# Altium schematic symbol library kmilo17pet-Maxim_Sensors.SchLib: 1172 symbols (part 9 of 61)
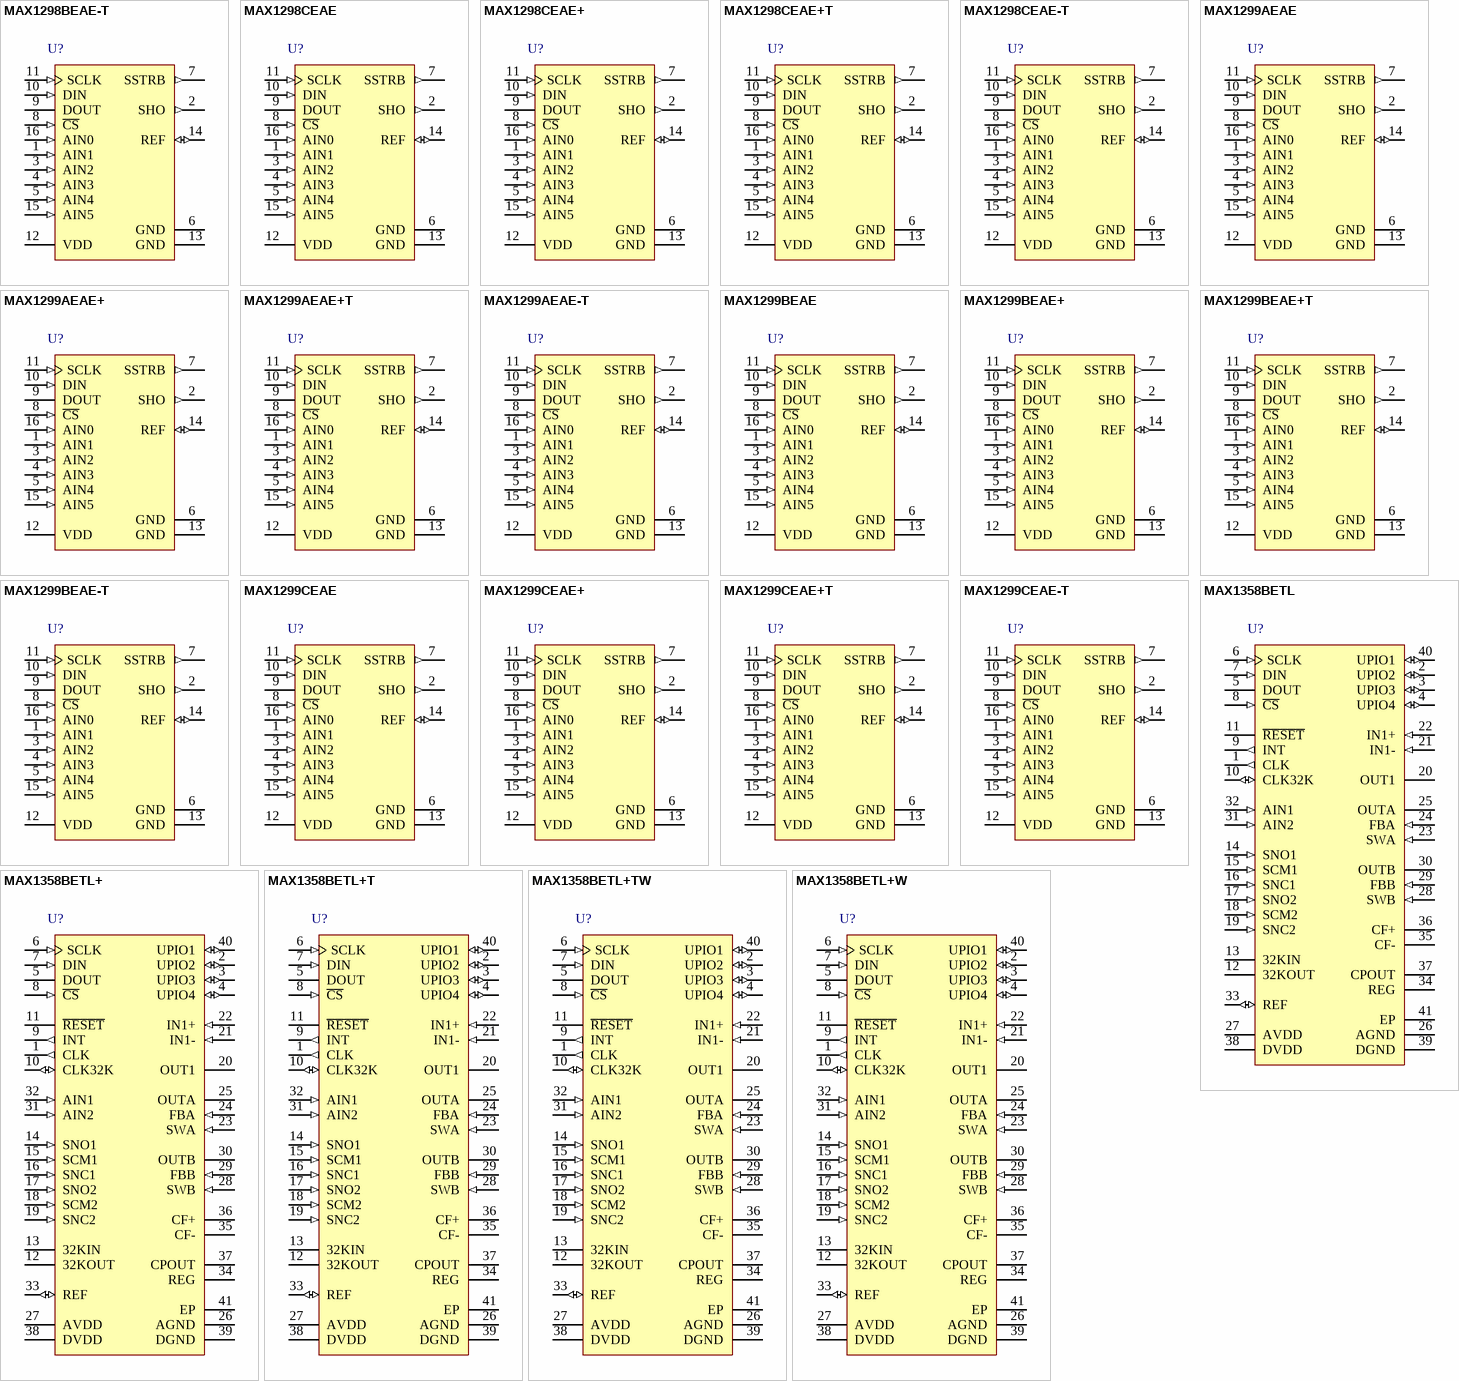
[diagram p41: symbols MAX1298BEAE-T to MAX1358BETL+W]

## MAX1298BEAE-T
designator U?
Serial-Output Temperature Sensor with Five-Channel ADC, 12 Bits Temperature Resolution, -40 to 85 degC, 16-Pin SOP (A16-3), Tape and Reel; Generic Part Number: MAX1298B; PartNumber: MAX1298BEAE-T; Interface: 3-Wire/SPI; Parasite Pwr.: No; DatasheetVersion: Rev. 1; PackageVersion: Rev. C, 02/2010; PackageReference: A16-3; PackageDescription: 16-Pin Shrink Small-Outline Package, Body 5.29 x 6.2 mm, Pitch 0.65 mm; Supplier 1: Mouser; Supplier Part Number 1: N/A; Packing: Tape and Reel; Mounting Technology: Surface Mount; Code_JEDEC: MO-150; ComponentLink1Description: Manufacturer URL; ComponentLink1URL: http://www.maximintegrated.com/; ComponentLink2Description: Datasheet; ComponentLink2URL: http://datasheets.maximintegrated.com/en/ds/MAX1298-MAX1299C.pdf; ComponentLink3Description: Package Specification; ComponentLink3URL: http://pdfserv.maximintegrated.com/package_dwgs/21-0056.PDF
footprint MAXM-A16-3_N (SOP, 16-Leads, Body 6.2x5.29mm, Pitch 0.65mm, IPC Medium Density)
footprint MAXM-A16-3_L (SOP, 16-Leads, Body 6.2x5.29mm, Pitch 0.65mm, IPC High Density)
footprint MAXM-A16-3_M (SOP, 16-Leads, Body 6.2x5.29mm, Pitch 0.65mm, IPC Low Density)
pins: 1 AIN1 (in) "Analog Input 1. Negative differential input relative to AIN0 or positive differential input relative to AIN5 (Table 5). Connect to the cathode of external diode 1 for remote temperature sensing", 2 SHO (out) "Shield Output. Used to suppress leakage currents at the anodes of remote temperature sensors (see Remote Diode Shielding). May also be connected to the shield of twisted-pair input cables used for remote temperature (See Datasheet)", 3 AIN2 (in) "Analog Input 2. Positive differential input relative to AIN3 or positive differential input relative to AIN5 (Table 5). Connect to the anode of external diode 2 for remote temperature sensing.", 4 AIN3 (in) "Analog Input 3. Negative differential input relative to AIN2 or positive differential input relative to AIN5 (Table 5). Connect to the cathode of external diode 2 for remote temperature sensing.", 5 AIN4 (in) "Analog input 4. Positive differential input relative to AIN5 (Table 5).", 6 GND (power) "Ground. Connect to pin 13.", 7 SSTRB (out) "Serial Strobe Output. SSTRB goes low at the beginning of an A/D conversion, and it goes high when the conversion is finished.", 8 ~{CS} (in) "Active-Low Chip Select. Data will not be clocked into DIN unless C\S\ is low. When C\S\ is high, DOUT is at high impedance.", 9 DOUT (hiz) "Serial Data Output. DOUT transitions on the falling edge of SCLK.", 10 DIN (in) "Serial Data Input. DIN latches data on the rising edge of SCLK. 11 SCLK Serial Clock Input. Clocks data in and out of the serial interface.", 11 SCLK (in) "Serial Clock Input. Clocks data in and out of the serial interface.", 12 VDD (power) "Positive Supply Voltage. Bypass with a 0.1uF capacitor to GND (pin 13).", 13 GND (power) "Ground (star ground)", 14 REF (io) "Reference-Buffer Output/ADC Reference Input. Reference voltage for A/D conversion. Bypass to GND (pin 13) with a 0.1uF capacitor. Select reference mode by writing to configuration byte (Table 2).", 15 AIN5 (in) "Analog Input 5. Negative differential input relative to AIN0-AIN4 (Table 5).", 16 AIN0 (in) "Analog Input 0. Positive differential input relative to AIN1 or positive differential input relative to AIN5 (Table 5). Connect to the anode of external diode 1 for remote temperature sensing."

## MAX1298CEAE
designator U?
Serial-Output Temperature Sensor with Five-Channel ADC, 12 Bits Temperature Resolution, -40 to 85 degC, 16-Pin SOP (A16-3); Generic Part Number: MAX1298C; PartNumber: MAX1298CEAE; Interface: 3-Wire/SPI; Parasite Pwr.: No; DatasheetVersion: Rev. 1; PackageVersion: Rev. C, 02/2010; PackageReference: A16-3; PackageDescription: 16-Pin Shrink Small-Outline Package, Body 5.29 x 6.2 mm, Pitch 0.65 mm; Supplier 1: Mouser; Supplier Part Number 1: N/A; Mounting Technology: Surface Mount; Code_JEDEC: MO-150; ComponentLink1Description: Manufacturer URL; ComponentLink1URL: http://www.maximintegrated.com/; ComponentLink2Description: Datasheet; ComponentLink2URL: http://datasheets.maximintegrated.com/en/ds/MAX1298-MAX1299C.pdf; ComponentLink3Description: Package Specification; ComponentLink3URL: http://pdfserv.maximintegrated.com/package_dwgs/21-0056.PDF
footprint MAXM-A16-3_N (SOP, 16-Leads, Body 6.2x5.29mm, Pitch 0.65mm, IPC Medium Density)
footprint MAXM-A16-3_L (SOP, 16-Leads, Body 6.2x5.29mm, Pitch 0.65mm, IPC High Density)
footprint MAXM-A16-3_M (SOP, 16-Leads, Body 6.2x5.29mm, Pitch 0.65mm, IPC Low Density)
pins: 1 AIN1 (in) "Analog Input 1. Negative differential input relative to AIN0 or positive differential input relative to AIN5 (Table 5). Connect to the cathode of external diode 1 for remote temperature sensing", 2 SHO (out) "Shield Output. Used to suppress leakage currents at the anodes of remote temperature sensors (see Remote Diode Shielding). May also be connected to the shield of twisted-pair input cables used for remote temperature (See Datasheet)", 3 AIN2 (in) "Analog Input 2. Positive differential input relative to AIN3 or positive differential input relative to AIN5 (Table 5). Connect to the anode of external diode 2 for remote temperature sensing.", 4 AIN3 (in) "Analog Input 3. Negative differential input relative to AIN2 or positive differential input relative to AIN5 (Table 5). Connect to the cathode of external diode 2 for remote temperature sensing.", 5 AIN4 (in) "Analog input 4. Positive differential input relative to AIN5 (Table 5).", 6 GND (power) "Ground. Connect to pin 13.", 7 SSTRB (out) "Serial Strobe Output. SSTRB goes low at the beginning of an A/D conversion, and it goes high when the conversion is finished.", 8 ~{CS} (in) "Active-Low Chip Select. Data will not be clocked into DIN unless C\S\ is low. When C\S\ is high, DOUT is at high impedance.", 9 DOUT (hiz) "Serial Data Output. DOUT transitions on the falling edge of SCLK.", 10 DIN (in) "Serial Data Input. DIN latches data on the rising edge of SCLK. 11 SCLK Serial Clock Input. Clocks data in and out of the serial interface.", 11 SCLK (in) "Serial Clock Input. Clocks data in and out of the serial interface.", 12 VDD (power) "Positive Supply Voltage. Bypass with a 0.1uF capacitor to GND (pin 13).", 13 GND (power) "Ground (star ground)", 14 REF (io) "Reference-Buffer Output/ADC Reference Input. Reference voltage for A/D conversion. Bypass to GND (pin 13) with a 0.1uF capacitor. Select reference mode by writing to configuration byte (Table 2).", 15 AIN5 (in) "Analog Input 5. Negative differential input relative to AIN0-AIN4 (Table 5).", 16 AIN0 (in) "Analog Input 0. Positive differential input relative to AIN1 or positive differential input relative to AIN5 (Table 5). Connect to the anode of external diode 1 for remote temperature sensing."

## MAX1298CEAE+
designator U?
Serial-Output Temperature Sensor with Five-Channel ADC, 12 Bits Temperature Resolution, -40 to 85 degC, 16-Pin SOP (A16+3), Pb-Free; Generic Part Number: MAX1298C; PartNumber: MAX1298CEAE+; Interface: 3-Wire/SPI; Parasite Pwr.: No; DatasheetVersion: Rev. 1; PackageVersion: Rev. C, 02/2010; PackageReference: A16+3; PackageDescription: 16-Pin Shrink Small-Outline Package, Body 5.29 x 6.2 mm, Pitch 0.65 mm; Supplier 1: Digi-Key; Supplier Part Number 1: MAX1298CEAE+-ND; Supplier 2: Mouser; Supplier Part Number 2: 700-MAX1298CEAE; Mounting Technology: Surface Mount; Code_JEDEC: MO-150; ComponentLink1Description: Manufacturer URL; ComponentLink1URL: http://www.maximintegrated.com/; ComponentLink2Description: Datasheet; ComponentLink2URL: http://datasheets.maximintegrated.com/en/ds/MAX1298-MAX1299C.pdf; ComponentLink3Description: Package Specification; ComponentLink3URL: http://pdfserv.maximintegrated.com/package_dwgs/21-0056.PDF
footprint MAXM-A16+3_N (SOP, 16-Leads, Body 6.2x5.29mm, Pitch 0.65mm, IPC Medium Density)
footprint MAXM-A16+3_L (SOP, 16-Leads, Body 6.2x5.29mm, Pitch 0.65mm, IPC High Density)
footprint MAXM-A16+3_M (SOP, 16-Leads, Body 6.2x5.29mm, Pitch 0.65mm, IPC Low Density)
pins: 1 AIN1 (in) "Analog Input 1. Negative differential input relative to AIN0 or positive differential input relative to AIN5 (Table 5). Connect to the cathode of external diode 1 for remote temperature sensing", 2 SHO (out) "Shield Output. Used to suppress leakage currents at the anodes of remote temperature sensors (see Remote Diode Shielding). May also be connected to the shield of twisted-pair input cables used for remote temperature (See Datasheet)", 3 AIN2 (in) "Analog Input 2. Positive differential input relative to AIN3 or positive differential input relative to AIN5 (Table 5). Connect to the anode of external diode 2 for remote temperature sensing.", 4 AIN3 (in) "Analog Input 3. Negative differential input relative to AIN2 or positive differential input relative to AIN5 (Table 5). Connect to the cathode of external diode 2 for remote temperature sensing.", 5 AIN4 (in) "Analog input 4. Positive differential input relative to AIN5 (Table 5).", 6 GND (power) "Ground. Connect to pin 13.", 7 SSTRB (out) "Serial Strobe Output. SSTRB goes low at the beginning of an A/D conversion, and it goes high when the conversion is finished.", 8 ~{CS} (in) "Active-Low Chip Select. Data will not be clocked into DIN unless C\S\ is low. When C\S\ is high, DOUT is at high impedance.", 9 DOUT (hiz) "Serial Data Output. DOUT transitions on the falling edge of SCLK.", 10 DIN (in) "Serial Data Input. DIN latches data on the rising edge of SCLK. 11 SCLK Serial Clock Input. Clocks data in and out of the serial interface.", 11 SCLK (in) "Serial Clock Input. Clocks data in and out of the serial interface.", 12 VDD (power) "Positive Supply Voltage. Bypass with a 0.1uF capacitor to GND (pin 13).", 13 GND (power) "Ground (star ground)", 14 REF (io) "Reference-Buffer Output/ADC Reference Input. Reference voltage for A/D conversion. Bypass to GND (pin 13) with a 0.1uF capacitor. Select reference mode by writing to configuration byte (Table 2).", 15 AIN5 (in) "Analog Input 5. Negative differential input relative to AIN0-AIN4 (Table 5).", 16 AIN0 (in) "Analog Input 0. Positive differential input relative to AIN1 or positive differential input relative to AIN5 (Table 5). Connect to the anode of external diode 1 for remote temperature sensing."

## MAX1298CEAE+T
designator U?
Serial-Output Temperature Sensor with Five-Channel ADC, 12 Bits Temperature Resolution, -40 to 85 degC, 16-Pin SOP (A16+3), Pb-Free, Tape and Reel; Generic Part Number: MAX1298C; PartNumber: MAX1298CEAE+T; Interface: 3-Wire/SPI; Parasite Pwr.: No; DatasheetVersion: Rev. 1; PackageVersion: Rev. C, 02/2010; PackageReference: A16+3; PackageDescription: 16-Pin Shrink Small-Outline Package, Body 5.29 x 6.2 mm, Pitch 0.65 mm; Supplier 1: Digi-Key; Supplier Part Number 1: MAX1298CEAE+T-ND; Supplier 2: Mouser; Supplier Part Number 2: 700-MAX1298CEAET; Packing: Tape and Reel; Mounting Technology: Surface Mount; Code_JEDEC: MO-150; ComponentLink1Description: Manufacturer URL; ComponentLink1URL: http://www.maximintegrated.com/; ComponentLink2Description: Datasheet; ComponentLink2URL: http://datasheets.maximintegrated.com/en/ds/MAX1298-MAX1299C.pdf; ComponentLink3Description: Package Specification; ComponentLink3URL: http://pdfserv.maximintegrated.com/package_dwgs/21-0056.PDF
footprint MAXM-A16+3_N (SOP, 16-Leads, Body 6.2x5.29mm, Pitch 0.65mm, IPC Medium Density)
footprint MAXM-A16+3_L (SOP, 16-Leads, Body 6.2x5.29mm, Pitch 0.65mm, IPC High Density)
footprint MAXM-A16+3_M (SOP, 16-Leads, Body 6.2x5.29mm, Pitch 0.65mm, IPC Low Density)
pins: 1 AIN1 (in) "Analog Input 1. Negative differential input relative to AIN0 or positive differential input relative to AIN5 (Table 5). Connect to the cathode of external diode 1 for remote temperature sensing", 2 SHO (out) "Shield Output. Used to suppress leakage currents at the anodes of remote temperature sensors (see Remote Diode Shielding). May also be connected to the shield of twisted-pair input cables used for remote temperature (See Datasheet)", 3 AIN2 (in) "Analog Input 2. Positive differential input relative to AIN3 or positive differential input relative to AIN5 (Table 5). Connect to the anode of external diode 2 for remote temperature sensing.", 4 AIN3 (in) "Analog Input 3. Negative differential input relative to AIN2 or positive differential input relative to AIN5 (Table 5). Connect to the cathode of external diode 2 for remote temperature sensing.", 5 AIN4 (in) "Analog input 4. Positive differential input relative to AIN5 (Table 5).", 6 GND (power) "Ground. Connect to pin 13.", 7 SSTRB (out) "Serial Strobe Output. SSTRB goes low at the beginning of an A/D conversion, and it goes high when the conversion is finished.", 8 ~{CS} (in) "Active-Low Chip Select. Data will not be clocked into DIN unless C\S\ is low. When C\S\ is high, DOUT is at high impedance.", 9 DOUT (hiz) "Serial Data Output. DOUT transitions on the falling edge of SCLK.", 10 DIN (in) "Serial Data Input. DIN latches data on the rising edge of SCLK. 11 SCLK Serial Clock Input. Clocks data in and out of the serial interface.", 11 SCLK (in) "Serial Clock Input. Clocks data in and out of the serial interface.", 12 VDD (power) "Positive Supply Voltage. Bypass with a 0.1uF capacitor to GND (pin 13).", 13 GND (power) "Ground (star ground)", 14 REF (io) "Reference-Buffer Output/ADC Reference Input. Reference voltage for A/D conversion. Bypass to GND (pin 13) with a 0.1uF capacitor. Select reference mode by writing to configuration byte (Table 2).", 15 AIN5 (in) "Analog Input 5. Negative differential input relative to AIN0-AIN4 (Table 5).", 16 AIN0 (in) "Analog Input 0. Positive differential input relative to AIN1 or positive differential input relative to AIN5 (Table 5). Connect to the anode of external diode 1 for remote temperature sensing."

## MAX1298CEAE-T
designator U?
Serial-Output Temperature Sensor with Five-Channel ADC, 12 Bits Temperature Resolution, -40 to 85 degC, 16-Pin SOP (A16-3), Tape and Reel; Generic Part Number: MAX1298C; PartNumber: MAX1298CEAE-T; Interface: 3-Wire/SPI; Parasite Pwr.: No; DatasheetVersion: Rev. 1; PackageVersion: Rev. C, 02/2010; PackageReference: A16-3; PackageDescription: 16-Pin Shrink Small-Outline Package, Body 5.29 x 6.2 mm, Pitch 0.65 mm; Supplier 1: Mouser; Supplier Part Number 1: N/A; Packing: Tape and Reel; Mounting Technology: Surface Mount; Code_JEDEC: MO-150; ComponentLink1Description: Manufacturer URL; ComponentLink1URL: http://www.maximintegrated.com/; ComponentLink2Description: Datasheet; ComponentLink2URL: http://datasheets.maximintegrated.com/en/ds/MAX1298-MAX1299C.pdf; ComponentLink3Description: Package Specification; ComponentLink3URL: http://pdfserv.maximintegrated.com/package_dwgs/21-0056.PDF
footprint MAXM-A16-3_N (SOP, 16-Leads, Body 6.2x5.29mm, Pitch 0.65mm, IPC Medium Density)
footprint MAXM-A16-3_L (SOP, 16-Leads, Body 6.2x5.29mm, Pitch 0.65mm, IPC High Density)
footprint MAXM-A16-3_M (SOP, 16-Leads, Body 6.2x5.29mm, Pitch 0.65mm, IPC Low Density)
pins: 1 AIN1 (in) "Analog Input 1. Negative differential input relative to AIN0 or positive differential input relative to AIN5 (Table 5). Connect to the cathode of external diode 1 for remote temperature sensing", 2 SHO (out) "Shield Output. Used to suppress leakage currents at the anodes of remote temperature sensors (see Remote Diode Shielding). May also be connected to the shield of twisted-pair input cables used for remote temperature (See Datasheet)", 3 AIN2 (in) "Analog Input 2. Positive differential input relative to AIN3 or positive differential input relative to AIN5 (Table 5). Connect to the anode of external diode 2 for remote temperature sensing.", 4 AIN3 (in) "Analog Input 3. Negative differential input relative to AIN2 or positive differential input relative to AIN5 (Table 5). Connect to the cathode of external diode 2 for remote temperature sensing.", 5 AIN4 (in) "Analog input 4. Positive differential input relative to AIN5 (Table 5).", 6 GND (power) "Ground. Connect to pin 13.", 7 SSTRB (out) "Serial Strobe Output. SSTRB goes low at the beginning of an A/D conversion, and it goes high when the conversion is finished.", 8 ~{CS} (in) "Active-Low Chip Select. Data will not be clocked into DIN unless C\S\ is low. When C\S\ is high, DOUT is at high impedance.", 9 DOUT (hiz) "Serial Data Output. DOUT transitions on the falling edge of SCLK.", 10 DIN (in) "Serial Data Input. DIN latches data on the rising edge of SCLK. 11 SCLK Serial Clock Input. Clocks data in and out of the serial interface.", 11 SCLK (in) "Serial Clock Input. Clocks data in and out of the serial interface.", 12 VDD (power) "Positive Supply Voltage. Bypass with a 0.1uF capacitor to GND (pin 13).", 13 GND (power) "Ground (star ground)", 14 REF (io) "Reference-Buffer Output/ADC Reference Input. Reference voltage for A/D conversion. Bypass to GND (pin 13) with a 0.1uF capacitor. Select reference mode by writing to configuration byte (Table 2).", 15 AIN5 (in) "Analog Input 5. Negative differential input relative to AIN0-AIN4 (Table 5).", 16 AIN0 (in) "Analog Input 0. Positive differential input relative to AIN1 or positive differential input relative to AIN5 (Table 5). Connect to the anode of external diode 1 for remote temperature sensing."

## MAX1299AEAE
designator U?
Serial-Output Temperature Sensor with Five-Channel ADC, 12 Bits Temperature Resolution, -40 to 85 degC, 16-Pin SOP (A16-3); Generic Part Number: MAX1299A; PartNumber: MAX1299AEAE; Interface: 3-Wire/SPI; Parasite Pwr.: No; DatasheetVersion: Rev. 1; PackageVersion: Rev. C, 02/2010; PackageReference: A16-3; PackageDescription: 16-Pin Shrink Small-Outline Package, Body 5.29 x 6.2 mm, Pitch 0.65 mm; Supplier 1: Mouser; Supplier Part Number 1: N/A; Mounting Technology: Surface Mount; Code_JEDEC: MO-150; ComponentLink1Description: Manufacturer URL; ComponentLink1URL: http://www.maximintegrated.com/; ComponentLink2Description: Datasheet; ComponentLink2URL: http://datasheets.maximintegrated.com/en/ds/MAX1298-MAX1299C.pdf; ComponentLink3Description: Package Specification; ComponentLink3URL: http://pdfserv.maximintegrated.com/package_dwgs/21-0056.PDF
footprint MAXM-A16-3_N (SOP, 16-Leads, Body 6.2x5.29mm, Pitch 0.65mm, IPC Medium Density)
footprint MAXM-A16-3_L (SOP, 16-Leads, Body 6.2x5.29mm, Pitch 0.65mm, IPC High Density)
footprint MAXM-A16-3_M (SOP, 16-Leads, Body 6.2x5.29mm, Pitch 0.65mm, IPC Low Density)
pins: 1 AIN1 (in) "Analog Input 1. Negative differential input relative to AIN0 or positive differential input relative to AIN5 (Table 5). Connect to the cathode of external diode 1 for remote temperature sensing", 2 SHO (out) "Shield Output. Used to suppress leakage currents at the anodes of remote temperature sensors (see Remote Diode Shielding). May also be connected to the shield of twisted-pair input cables used for remote temperature (See Datasheet)", 3 AIN2 (in) "Analog Input 2. Positive differential input relative to AIN3 or positive differential input relative to AIN5 (Table 5). Connect to the anode of external diode 2 for remote temperature sensing.", 4 AIN3 (in) "Analog Input 3. Negative differential input relative to AIN2 or positive differential input relative to AIN5 (Table 5). Connect to the cathode of external diode 2 for remote temperature sensing.", 5 AIN4 (in) "Analog input 4. Positive differential input relative to AIN5 (Table 5).", 6 GND (power) "Ground. Connect to pin 13.", 7 SSTRB (out) "Serial Strobe Output. SSTRB goes low at the beginning of an A/D conversion, and it goes high when the conversion is finished.", 8 ~{CS} (in) "Active-Low Chip Select. Data will not be clocked into DIN unless C\S\ is low. When C\S\ is high, DOUT is at high impedance.", 9 DOUT (hiz) "Serial Data Output. DOUT transitions on the falling edge of SCLK.", 10 DIN (in) "Serial Data Input. DIN latches data on the rising edge of SCLK. 11 SCLK Serial Clock Input. Clocks data in and out of the serial interface.", 11 SCLK (in) "Serial Clock Input. Clocks data in and out of the serial interface.", 12 VDD (power) "Positive Supply Voltage. Bypass with a 0.1uF capacitor to GND (pin 13).", 13 GND (power) "Ground (star ground)", 14 REF (io) "Reference-Buffer Output/ADC Reference Input. Reference voltage for A/D conversion. Bypass to GND (pin 13) with a 0.1uF capacitor. Select reference mode by writing to configuration byte (Table 2).", 15 AIN5 (in) "Analog Input 5. Negative differential input relative to AIN0-AIN4 (Table 5).", 16 AIN0 (in) "Analog Input 0. Positive differential input relative to AIN1 or positive differential input relative to AIN5 (Table 5). Connect to the anode of external diode 1 for remote temperature sensing."

## MAX1299AEAE+
designator U?
Serial-Output Temperature Sensor with Five-Channel ADC, 12 Bits Temperature Resolution, -40 to 85 degC, 16-Pin SOP (A16+3), Pb-Free; Generic Part Number: MAX1299A; PartNumber: MAX1299AEAE+; Interface: 3-Wire/SPI; Parasite Pwr.: No; DatasheetVersion: Rev. 1; PackageVersion: Rev. C, 02/2010; PackageReference: A16+3; PackageDescription: 16-Pin Shrink Small-Outline Package, Body 5.29 x 6.2 mm, Pitch 0.65 mm; Supplier 1: Mouser; Supplier Part Number 1: N/A; Mounting Technology: Surface Mount; Code_JEDEC: MO-150; ComponentLink1Description: Manufacturer URL; ComponentLink1URL: http://www.maximintegrated.com/; ComponentLink2Description: Datasheet; ComponentLink2URL: http://datasheets.maximintegrated.com/en/ds/MAX1298-MAX1299C.pdf; ComponentLink3Description: Package Specification; ComponentLink3URL: http://pdfserv.maximintegrated.com/package_dwgs/21-0056.PDF
footprint MAXM-A16+3_N (SOP, 16-Leads, Body 6.2x5.29mm, Pitch 0.65mm, IPC Medium Density)
footprint MAXM-A16+3_L (SOP, 16-Leads, Body 6.2x5.29mm, Pitch 0.65mm, IPC High Density)
footprint MAXM-A16+3_M (SOP, 16-Leads, Body 6.2x5.29mm, Pitch 0.65mm, IPC Low Density)
pins: 1 AIN1 (in) "Analog Input 1. Negative differential input relative to AIN0 or positive differential input relative to AIN5 (Table 5). Connect to the cathode of external diode 1 for remote temperature sensing", 2 SHO (out) "Shield Output. Used to suppress leakage currents at the anodes of remote temperature sensors (see Remote Diode Shielding). May also be connected to the shield of twisted-pair input cables used for remote temperature (See Datasheet)", 3 AIN2 (in) "Analog Input 2. Positive differential input relative to AIN3 or positive differential input relative to AIN5 (Table 5). Connect to the anode of external diode 2 for remote temperature sensing.", 4 AIN3 (in) "Analog Input 3. Negative differential input relative to AIN2 or positive differential input relative to AIN5 (Table 5). Connect to the cathode of external diode 2 for remote temperature sensing.", 5 AIN4 (in) "Analog input 4. Positive differential input relative to AIN5 (Table 5).", 6 GND (power) "Ground. Connect to pin 13.", 7 SSTRB (out) "Serial Strobe Output. SSTRB goes low at the beginning of an A/D conversion, and it goes high when the conversion is finished.", 8 ~{CS} (in) "Active-Low Chip Select. Data will not be clocked into DIN unless C\S\ is low. When C\S\ is high, DOUT is at high impedance.", 9 DOUT (hiz) "Serial Data Output. DOUT transitions on the falling edge of SCLK.", 10 DIN (in) "Serial Data Input. DIN latches data on the rising edge of SCLK. 11 SCLK Serial Clock Input. Clocks data in and out of the serial interface.", 11 SCLK (in) "Serial Clock Input. Clocks data in and out of the serial interface.", 12 VDD (power) "Positive Supply Voltage. Bypass with a 0.1uF capacitor to GND (pin 13).", 13 GND (power) "Ground (star ground)", 14 REF (io) "Reference-Buffer Output/ADC Reference Input. Reference voltage for A/D conversion. Bypass to GND (pin 13) with a 0.1uF capacitor. Select reference mode by writing to configuration byte (Table 2).", 15 AIN5 (in) "Analog Input 5. Negative differential input relative to AIN0-AIN4 (Table 5).", 16 AIN0 (in) "Analog Input 0. Positive differential input relative to AIN1 or positive differential input relative to AIN5 (Table 5). Connect to the anode of external diode 1 for remote temperature sensing."

## MAX1299AEAE+T
designator U?
Serial-Output Temperature Sensor with Five-Channel ADC, 12 Bits Temperature Resolution, -40 to 85 degC, 16-Pin SOP (A16+3), Pb-Free, Tape and Reel; Generic Part Number: MAX1299A; PartNumber: MAX1299AEAE+T; Interface: 3-Wire/SPI; Parasite Pwr.: No; DatasheetVersion: Rev. 1; PackageVersion: Rev. C, 02/2010; PackageReference: A16+3; PackageDescription: 16-Pin Shrink Small-Outline Package, Body 5.29 x 6.2 mm, Pitch 0.65 mm; Supplier 1: Mouser; Supplier Part Number 1: N/A; Packing: Tape and Reel; Mounting Technology: Surface Mount; Code_JEDEC: MO-150; ComponentLink1Description: Manufacturer URL; ComponentLink1URL: http://www.maximintegrated.com/; ComponentLink2Description: Datasheet; ComponentLink2URL: http://datasheets.maximintegrated.com/en/ds/MAX1298-MAX1299C.pdf; ComponentLink3Description: Package Specification; ComponentLink3URL: http://pdfserv.maximintegrated.com/package_dwgs/21-0056.PDF
footprint MAXM-A16+3_N (SOP, 16-Leads, Body 6.2x5.29mm, Pitch 0.65mm, IPC Medium Density)
footprint MAXM-A16+3_L (SOP, 16-Leads, Body 6.2x5.29mm, Pitch 0.65mm, IPC High Density)
footprint MAXM-A16+3_M (SOP, 16-Leads, Body 6.2x5.29mm, Pitch 0.65mm, IPC Low Density)
pins: 1 AIN1 (in) "Analog Input 1. Negative differential input relative to AIN0 or positive differential input relative to AIN5 (Table 5). Connect to the cathode of external diode 1 for remote temperature sensing", 2 SHO (out) "Shield Output. Used to suppress leakage currents at the anodes of remote temperature sensors (see Remote Diode Shielding). May also be connected to the shield of twisted-pair input cables used for remote temperature (See Datasheet)", 3 AIN2 (in) "Analog Input 2. Positive differential input relative to AIN3 or positive differential input relative to AIN5 (Table 5). Connect to the anode of external diode 2 for remote temperature sensing.", 4 AIN3 (in) "Analog Input 3. Negative differential input relative to AIN2 or positive differential input relative to AIN5 (Table 5). Connect to the cathode of external diode 2 for remote temperature sensing.", 5 AIN4 (in) "Analog input 4. Positive differential input relative to AIN5 (Table 5).", 6 GND (power) "Ground. Connect to pin 13.", 7 SSTRB (out) "Serial Strobe Output. SSTRB goes low at the beginning of an A/D conversion, and it goes high when the conversion is finished.", 8 ~{CS} (in) "Active-Low Chip Select. Data will not be clocked into DIN unless C\S\ is low. When C\S\ is high, DOUT is at high impedance.", 9 DOUT (hiz) "Serial Data Output. DOUT transitions on the falling edge of SCLK.", 10 DIN (in) "Serial Data Input. DIN latches data on the rising edge of SCLK. 11 SCLK Serial Clock Input. Clocks data in and out of the serial interface.", 11 SCLK (in) "Serial Clock Input. Clocks data in and out of the serial interface.", 12 VDD (power) "Positive Supply Voltage. Bypass with a 0.1uF capacitor to GND (pin 13).", 13 GND (power) "Ground (star ground)", 14 REF (io) "Reference-Buffer Output/ADC Reference Input. Reference voltage for A/D conversion. Bypass to GND (pin 13) with a 0.1uF capacitor. Select reference mode by writing to configuration byte (Table 2).", 15 AIN5 (in) "Analog Input 5. Negative differential input relative to AIN0-AIN4 (Table 5).", 16 AIN0 (in) "Analog Input 0. Positive differential input relative to AIN1 or positive differential input relative to AIN5 (Table 5). Connect to the anode of external diode 1 for remote temperature sensing."

## MAX1299AEAE-T
designator U?
Serial-Output Temperature Sensor with Five-Channel ADC, 12 Bits Temperature Resolution, -40 to 85 degC, 16-Pin SOP (A16-3), Tape and Reel; Generic Part Number: MAX1299A; PartNumber: MAX1299AEAE-T; Interface: 3-Wire/SPI; Parasite Pwr.: No; DatasheetVersion: Rev. 1; PackageVersion: Rev. C, 02/2010; PackageReference: A16-3; PackageDescription: 16-Pin Shrink Small-Outline Package, Body 5.29 x 6.2 mm, Pitch 0.65 mm; Supplier 1: Mouser; Supplier Part Number 1: N/A; Packing: Tape and Reel; Mounting Technology: Surface Mount; Code_JEDEC: MO-150; ComponentLink1Description: Manufacturer URL; ComponentLink1URL: http://www.maximintegrated.com/; ComponentLink2Description: Datasheet; ComponentLink2URL: http://datasheets.maximintegrated.com/en/ds/MAX1298-MAX1299C.pdf; ComponentLink3Description: Package Specification; ComponentLink3URL: http://pdfserv.maximintegrated.com/package_dwgs/21-0056.PDF
footprint MAXM-A16-3_N (SOP, 16-Leads, Body 6.2x5.29mm, Pitch 0.65mm, IPC Medium Density)
footprint MAXM-A16-3_L (SOP, 16-Leads, Body 6.2x5.29mm, Pitch 0.65mm, IPC High Density)
footprint MAXM-A16-3_M (SOP, 16-Leads, Body 6.2x5.29mm, Pitch 0.65mm, IPC Low Density)
pins: 1 AIN1 (in) "Analog Input 1. Negative differential input relative to AIN0 or positive differential input relative to AIN5 (Table 5). Connect to the cathode of external diode 1 for remote temperature sensing", 2 SHO (out) "Shield Output. Used to suppress leakage currents at the anodes of remote temperature sensors (see Remote Diode Shielding). May also be connected to the shield of twisted-pair input cables used for remote temperature (See Datasheet)", 3 AIN2 (in) "Analog Input 2. Positive differential input relative to AIN3 or positive differential input relative to AIN5 (Table 5). Connect to the anode of external diode 2 for remote temperature sensing.", 4 AIN3 (in) "Analog Input 3. Negative differential input relative to AIN2 or positive differential input relative to AIN5 (Table 5). Connect to the cathode of external diode 2 for remote temperature sensing.", 5 AIN4 (in) "Analog input 4. Positive differential input relative to AIN5 (Table 5).", 6 GND (power) "Ground. Connect to pin 13.", 7 SSTRB (out) "Serial Strobe Output. SSTRB goes low at the beginning of an A/D conversion, and it goes high when the conversion is finished.", 8 ~{CS} (in) "Active-Low Chip Select. Data will not be clocked into DIN unless C\S\ is low. When C\S\ is high, DOUT is at high impedance.", 9 DOUT (hiz) "Serial Data Output. DOUT transitions on the falling edge of SCLK.", 10 DIN (in) "Serial Data Input. DIN latches data on the rising edge of SCLK. 11 SCLK Serial Clock Input. Clocks data in and out of the serial interface.", 11 SCLK (in) "Serial Clock Input. Clocks data in and out of the serial interface.", 12 VDD (power) "Positive Supply Voltage. Bypass with a 0.1uF capacitor to GND (pin 13).", 13 GND (power) "Ground (star ground)", 14 REF (io) "Reference-Buffer Output/ADC Reference Input. Reference voltage for A/D conversion. Bypass to GND (pin 13) with a 0.1uF capacitor. Select reference mode by writing to configuration byte (Table 2).", 15 AIN5 (in) "Analog Input 5. Negative differential input relative to AIN0-AIN4 (Table 5).", 16 AIN0 (in) "Analog Input 0. Positive differential input relative to AIN1 or positive differential input relative to AIN5 (Table 5). Connect to the anode of external diode 1 for remote temperature sensing."

## MAX1299BEAE
designator U?
Serial-Output Temperature Sensor with Five-Channel ADC, 12 Bits Temperature Resolution, -40 to 85 degC, 16-Pin SOP (A16-3); Generic Part Number: MAX1299B; PartNumber: MAX1299BEAE; Interface: 3-Wire/SPI; Parasite Pwr.: No; DatasheetVersion: Rev. 1; PackageVersion: Rev. C, 02/2010; PackageReference: A16-3; PackageDescription: 16-Pin Shrink Small-Outline Package, Body 5.29 x 6.2 mm, Pitch 0.65 mm; Supplier 1: Mouser; Supplier Part Number 1: N/A; Mounting Technology: Surface Mount; Code_JEDEC: MO-150; ComponentLink1Description: Manufacturer URL; ComponentLink1URL: http://www.maximintegrated.com/; ComponentLink2Description: Datasheet; ComponentLink2URL: http://datasheets.maximintegrated.com/en/ds/MAX1298-MAX1299C.pdf; ComponentLink3Description: Package Specification; ComponentLink3URL: http://pdfserv.maximintegrated.com/package_dwgs/21-0056.PDF
footprint MAXM-A16-3_N (SOP, 16-Leads, Body 6.2x5.29mm, Pitch 0.65mm, IPC Medium Density)
footprint MAXM-A16-3_L (SOP, 16-Leads, Body 6.2x5.29mm, Pitch 0.65mm, IPC High Density)
footprint MAXM-A16-3_M (SOP, 16-Leads, Body 6.2x5.29mm, Pitch 0.65mm, IPC Low Density)
pins: 1 AIN1 (in) "Analog Input 1. Negative differential input relative to AIN0 or positive differential input relative to AIN5 (Table 5). Connect to the cathode of external diode 1 for remote temperature sensing", 2 SHO (out) "Shield Output. Used to suppress leakage currents at the anodes of remote temperature sensors (see Remote Diode Shielding). May also be connected to the shield of twisted-pair input cables used for remote temperature (See Datasheet)", 3 AIN2 (in) "Analog Input 2. Positive differential input relative to AIN3 or positive differential input relative to AIN5 (Table 5). Connect to the anode of external diode 2 for remote temperature sensing.", 4 AIN3 (in) "Analog Input 3. Negative differential input relative to AIN2 or positive differential input relative to AIN5 (Table 5). Connect to the cathode of external diode 2 for remote temperature sensing.", 5 AIN4 (in) "Analog input 4. Positive differential input relative to AIN5 (Table 5).", 6 GND (power) "Ground. Connect to pin 13.", 7 SSTRB (out) "Serial Strobe Output. SSTRB goes low at the beginning of an A/D conversion, and it goes high when the conversion is finished.", 8 ~{CS} (in) "Active-Low Chip Select. Data will not be clocked into DIN unless C\S\ is low. When C\S\ is high, DOUT is at high impedance.", 9 DOUT (hiz) "Serial Data Output. DOUT transitions on the falling edge of SCLK.", 10 DIN (in) "Serial Data Input. DIN latches data on the rising edge of SCLK. 11 SCLK Serial Clock Input. Clocks data in and out of the serial interface.", 11 SCLK (in) "Serial Clock Input. Clocks data in and out of the serial interface.", 12 VDD (power) "Positive Supply Voltage. Bypass with a 0.1uF capacitor to GND (pin 13).", 13 GND (power) "Ground (star ground)", 14 REF (io) "Reference-Buffer Output/ADC Reference Input. Reference voltage for A/D conversion. Bypass to GND (pin 13) with a 0.1uF capacitor. Select reference mode by writing to configuration byte (Table 2).", 15 AIN5 (in) "Analog Input 5. Negative differential input relative to AIN0-AIN4 (Table 5).", 16 AIN0 (in) "Analog Input 0. Positive differential input relative to AIN1 or positive differential input relative to AIN5 (Table 5). Connect to the anode of external diode 1 for remote temperature sensing."

## MAX1299BEAE+
designator U?
Serial-Output Temperature Sensor with Five-Channel ADC, 12 Bits Temperature Resolution, -40 to 85 degC, 16-Pin SOP (A16+3), Pb-Free; Generic Part Number: MAX1299B; PartNumber: MAX1299BEAE+; Interface: 3-Wire/SPI; Parasite Pwr.: No; DatasheetVersion: Rev. 1; PackageVersion: Rev. C, 02/2010; PackageReference: A16+3; PackageDescription: 16-Pin Shrink Small-Outline Package, Body 5.29 x 6.2 mm, Pitch 0.65 mm; Supplier 1: Mouser; Supplier Part Number 1: N/A; Mounting Technology: Surface Mount; Code_JEDEC: MO-150; ComponentLink1Description: Manufacturer URL; ComponentLink1URL: http://www.maximintegrated.com/; ComponentLink2Description: Datasheet; ComponentLink2URL: http://datasheets.maximintegrated.com/en/ds/MAX1298-MAX1299C.pdf; ComponentLink3Description: Package Specification; ComponentLink3URL: http://pdfserv.maximintegrated.com/package_dwgs/21-0056.PDF
footprint MAXM-A16+3_N (SOP, 16-Leads, Body 6.2x5.29mm, Pitch 0.65mm, IPC Medium Density)
footprint MAXM-A16+3_L (SOP, 16-Leads, Body 6.2x5.29mm, Pitch 0.65mm, IPC High Density)
footprint MAXM-A16+3_M (SOP, 16-Leads, Body 6.2x5.29mm, Pitch 0.65mm, IPC Low Density)
pins: 1 AIN1 (in) "Analog Input 1. Negative differential input relative to AIN0 or positive differential input relative to AIN5 (Table 5). Connect to the cathode of external diode 1 for remote temperature sensing", 2 SHO (out) "Shield Output. Used to suppress leakage currents at the anodes of remote temperature sensors (see Remote Diode Shielding). May also be connected to the shield of twisted-pair input cables used for remote temperature (See Datasheet)", 3 AIN2 (in) "Analog Input 2. Positive differential input relative to AIN3 or positive differential input relative to AIN5 (Table 5). Connect to the anode of external diode 2 for remote temperature sensing.", 4 AIN3 (in) "Analog Input 3. Negative differential input relative to AIN2 or positive differential input relative to AIN5 (Table 5). Connect to the cathode of external diode 2 for remote temperature sensing.", 5 AIN4 (in) "Analog input 4. Positive differential input relative to AIN5 (Table 5).", 6 GND (power) "Ground. Connect to pin 13.", 7 SSTRB (out) "Serial Strobe Output. SSTRB goes low at the beginning of an A/D conversion, and it goes high when the conversion is finished.", 8 ~{CS} (in) "Active-Low Chip Select. Data will not be clocked into DIN unless C\S\ is low. When C\S\ is high, DOUT is at high impedance.", 9 DOUT (hiz) "Serial Data Output. DOUT transitions on the falling edge of SCLK.", 10 DIN (in) "Serial Data Input. DIN latches data on the rising edge of SCLK. 11 SCLK Serial Clock Input. Clocks data in and out of the serial interface.", 11 SCLK (in) "Serial Clock Input. Clocks data in and out of the serial interface.", 12 VDD (power) "Positive Supply Voltage. Bypass with a 0.1uF capacitor to GND (pin 13).", 13 GND (power) "Ground (star ground)", 14 REF (io) "Reference-Buffer Output/ADC Reference Input. Reference voltage for A/D conversion. Bypass to GND (pin 13) with a 0.1uF capacitor. Select reference mode by writing to configuration byte (Table 2).", 15 AIN5 (in) "Analog Input 5. Negative differential input relative to AIN0-AIN4 (Table 5).", 16 AIN0 (in) "Analog Input 0. Positive differential input relative to AIN1 or positive differential input relative to AIN5 (Table 5). Connect to the anode of external diode 1 for remote temperature sensing."

## MAX1299BEAE+T
designator U?
Serial-Output Temperature Sensor with Five-Channel ADC, 12 Bits Temperature Resolution, -40 to 85 degC, 16-Pin SOP (A16+3), Pb-Free, Tape and Reel; Generic Part Number: MAX1299B; PartNumber: MAX1299BEAE+T; Interface: 3-Wire/SPI; Parasite Pwr.: No; DatasheetVersion: Rev. 1; PackageVersion: Rev. C, 02/2010; PackageReference: A16+3; PackageDescription: 16-Pin Shrink Small-Outline Package, Body 5.29 x 6.2 mm, Pitch 0.65 mm; Supplier 1: Mouser; Supplier Part Number 1: N/A; Packing: Tape and Reel; Mounting Technology: Surface Mount; Code_JEDEC: MO-150; ComponentLink1Description: Manufacturer URL; ComponentLink1URL: http://www.maximintegrated.com/; ComponentLink2Description: Datasheet; ComponentLink2URL: http://datasheets.maximintegrated.com/en/ds/MAX1298-MAX1299C.pdf; ComponentLink3Description: Package Specification; ComponentLink3URL: http://pdfserv.maximintegrated.com/package_dwgs/21-0056.PDF
footprint MAXM-A16+3_N (SOP, 16-Leads, Body 6.2x5.29mm, Pitch 0.65mm, IPC Medium Density)
footprint MAXM-A16+3_L (SOP, 16-Leads, Body 6.2x5.29mm, Pitch 0.65mm, IPC High Density)
footprint MAXM-A16+3_M (SOP, 16-Leads, Body 6.2x5.29mm, Pitch 0.65mm, IPC Low Density)
pins: 1 AIN1 (in) "Analog Input 1. Negative differential input relative to AIN0 or positive differential input relative to AIN5 (Table 5). Connect to the cathode of external diode 1 for remote temperature sensing", 2 SHO (out) "Shield Output. Used to suppress leakage currents at the anodes of remote temperature sensors (see Remote Diode Shielding). May also be connected to the shield of twisted-pair input cables used for remote temperature (See Datasheet)", 3 AIN2 (in) "Analog Input 2. Positive differential input relative to AIN3 or positive differential input relative to AIN5 (Table 5). Connect to the anode of external diode 2 for remote temperature sensing.", 4 AIN3 (in) "Analog Input 3. Negative differential input relative to AIN2 or positive differential input relative to AIN5 (Table 5). Connect to the cathode of external diode 2 for remote temperature sensing.", 5 AIN4 (in) "Analog input 4. Positive differential input relative to AIN5 (Table 5).", 6 GND (power) "Ground. Connect to pin 13.", 7 SSTRB (out) "Serial Strobe Output. SSTRB goes low at the beginning of an A/D conversion, and it goes high when the conversion is finished.", 8 ~{CS} (in) "Active-Low Chip Select. Data will not be clocked into DIN unless C\S\ is low. When C\S\ is high, DOUT is at high impedance.", 9 DOUT (hiz) "Serial Data Output. DOUT transitions on the falling edge of SCLK.", 10 DIN (in) "Serial Data Input. DIN latches data on the rising edge of SCLK. 11 SCLK Serial Clock Input. Clocks data in and out of the serial interface.", 11 SCLK (in) "Serial Clock Input. Clocks data in and out of the serial interface.", 12 VDD (power) "Positive Supply Voltage. Bypass with a 0.1uF capacitor to GND (pin 13).", 13 GND (power) "Ground (star ground)", 14 REF (io) "Reference-Buffer Output/ADC Reference Input. Reference voltage for A/D conversion. Bypass to GND (pin 13) with a 0.1uF capacitor. Select reference mode by writing to configuration byte (Table 2).", 15 AIN5 (in) "Analog Input 5. Negative differential input relative to AIN0-AIN4 (Table 5).", 16 AIN0 (in) "Analog Input 0. Positive differential input relative to AIN1 or positive differential input relative to AIN5 (Table 5). Connect to the anode of external diode 1 for remote temperature sensing."

## MAX1299BEAE-T
designator U?
Serial-Output Temperature Sensor with Five-Channel ADC, 12 Bits Temperature Resolution, -40 to 85 degC, 16-Pin SOP (A16-3), Tape and Reel; Generic Part Number: MAX1299B; PartNumber: MAX1299BEAE-T; Interface: 3-Wire/SPI; Parasite Pwr.: No; DatasheetVersion: Rev. 1; PackageVersion: Rev. C, 02/2010; PackageReference: A16-3; PackageDescription: 16-Pin Shrink Small-Outline Package, Body 5.29 x 6.2 mm, Pitch 0.65 mm; Supplier 1: Mouser; Supplier Part Number 1: N/A; Packing: Tape and Reel; Mounting Technology: Surface Mount; Code_JEDEC: MO-150; ComponentLink1Description: Manufacturer URL; ComponentLink1URL: http://www.maximintegrated.com/; ComponentLink2Description: Datasheet; ComponentLink2URL: http://datasheets.maximintegrated.com/en/ds/MAX1298-MAX1299C.pdf; ComponentLink3Description: Package Specification; ComponentLink3URL: http://pdfserv.maximintegrated.com/package_dwgs/21-0056.PDF
footprint MAXM-A16-3_N (SOP, 16-Leads, Body 6.2x5.29mm, Pitch 0.65mm, IPC Medium Density)
footprint MAXM-A16-3_L (SOP, 16-Leads, Body 6.2x5.29mm, Pitch 0.65mm, IPC High Density)
footprint MAXM-A16-3_M (SOP, 16-Leads, Body 6.2x5.29mm, Pitch 0.65mm, IPC Low Density)
pins: 1 AIN1 (in) "Analog Input 1. Negative differential input relative to AIN0 or positive differential input relative to AIN5 (Table 5). Connect to the cathode of external diode 1 for remote temperature sensing", 2 SHO (out) "Shield Output. Used to suppress leakage currents at the anodes of remote temperature sensors (see Remote Diode Shielding). May also be connected to the shield of twisted-pair input cables used for remote temperature (See Datasheet)", 3 AIN2 (in) "Analog Input 2. Positive differential input relative to AIN3 or positive differential input relative to AIN5 (Table 5). Connect to the anode of external diode 2 for remote temperature sensing.", 4 AIN3 (in) "Analog Input 3. Negative differential input relative to AIN2 or positive differential input relative to AIN5 (Table 5). Connect to the cathode of external diode 2 for remote temperature sensing.", 5 AIN4 (in) "Analog input 4. Positive differential input relative to AIN5 (Table 5).", 6 GND (power) "Ground. Connect to pin 13.", 7 SSTRB (out) "Serial Strobe Output. SSTRB goes low at the beginning of an A/D conversion, and it goes high when the conversion is finished.", 8 ~{CS} (in) "Active-Low Chip Select. Data will not be clocked into DIN unless C\S\ is low. When C\S\ is high, DOUT is at high impedance.", 9 DOUT (hiz) "Serial Data Output. DOUT transitions on the falling edge of SCLK.", 10 DIN (in) "Serial Data Input. DIN latches data on the rising edge of SCLK. 11 SCLK Serial Clock Input. Clocks data in and out of the serial interface.", 11 SCLK (in) "Serial Clock Input. Clocks data in and out of the serial interface.", 12 VDD (power) "Positive Supply Voltage. Bypass with a 0.1uF capacitor to GND (pin 13).", 13 GND (power) "Ground (star ground)", 14 REF (io) "Reference-Buffer Output/ADC Reference Input. Reference voltage for A/D conversion. Bypass to GND (pin 13) with a 0.1uF capacitor. Select reference mode by writing to configuration byte (Table 2).", 15 AIN5 (in) "Analog Input 5. Negative differential input relative to AIN0-AIN4 (Table 5).", 16 AIN0 (in) "Analog Input 0. Positive differential input relative to AIN1 or positive differential input relative to AIN5 (Table 5). Connect to the anode of external diode 1 for remote temperature sensing."

## MAX1299CEAE
designator U?
Serial-Output Temperature Sensor with Five-Channel ADC, 12 Bits Temperature Resolution, -40 to 85 degC, 16-Pin SOP (A16-3); Generic Part Number: MAX1299C; PartNumber: MAX1299CEAE; Interface: 3-Wire/SPI; Parasite Pwr.: No; DatasheetVersion: Rev. 1; PackageVersion: Rev. C, 02/2010; PackageReference: A16-3; PackageDescription: 16-Pin Shrink Small-Outline Package, Body 5.29 x 6.2 mm, Pitch 0.65 mm; Supplier 1: Mouser; Supplier Part Number 1: N/A; Mounting Technology: Surface Mount; Code_JEDEC: MO-150; ComponentLink1Description: Manufacturer URL; ComponentLink1URL: http://www.maximintegrated.com/; ComponentLink2Description: Datasheet; ComponentLink2URL: http://datasheets.maximintegrated.com/en/ds/MAX1298-MAX1299C.pdf; ComponentLink3Description: Package Specification; ComponentLink3URL: http://pdfserv.maximintegrated.com/package_dwgs/21-0056.PDF
footprint MAXM-A16-3_N (SOP, 16-Leads, Body 6.2x5.29mm, Pitch 0.65mm, IPC Medium Density)
footprint MAXM-A16-3_L (SOP, 16-Leads, Body 6.2x5.29mm, Pitch 0.65mm, IPC High Density)
footprint MAXM-A16-3_M (SOP, 16-Leads, Body 6.2x5.29mm, Pitch 0.65mm, IPC Low Density)
pins: 1 AIN1 (in) "Analog Input 1. Negative differential input relative to AIN0 or positive differential input relative to AIN5 (Table 5). Connect to the cathode of external diode 1 for remote temperature sensing", 2 SHO (out) "Shield Output. Used to suppress leakage currents at the anodes of remote temperature sensors (see Remote Diode Shielding). May also be connected to the shield of twisted-pair input cables used for remote temperature (See Datasheet)", 3 AIN2 (in) "Analog Input 2. Positive differential input relative to AIN3 or positive differential input relative to AIN5 (Table 5). Connect to the anode of external diode 2 for remote temperature sensing.", 4 AIN3 (in) "Analog Input 3. Negative differential input relative to AIN2 or positive differential input relative to AIN5 (Table 5). Connect to the cathode of external diode 2 for remote temperature sensing.", 5 AIN4 (in) "Analog input 4. Positive differential input relative to AIN5 (Table 5).", 6 GND (power) "Ground. Connect to pin 13.", 7 SSTRB (out) "Serial Strobe Output. SSTRB goes low at the beginning of an A/D conversion, and it goes high when the conversion is finished.", 8 ~{CS} (in) "Active-Low Chip Select. Data will not be clocked into DIN unless C\S\ is low. When C\S\ is high, DOUT is at high impedance.", 9 DOUT (hiz) "Serial Data Output. DOUT transitions on the falling edge of SCLK.", 10 DIN (in) "Serial Data Input. DIN latches data on the rising edge of SCLK. 11 SCLK Serial Clock Input. Clocks data in and out of the serial interface.", 11 SCLK (in) "Serial Clock Input. Clocks data in and out of the serial interface.", 12 VDD (power) "Positive Supply Voltage. Bypass with a 0.1uF capacitor to GND (pin 13).", 13 GND (power) "Ground (star ground)", 14 REF (io) "Reference-Buffer Output/ADC Reference Input. Reference voltage for A/D conversion. Bypass to GND (pin 13) with a 0.1uF capacitor. Select reference mode by writing to configuration byte (Table 2).", 15 AIN5 (in) "Analog Input 5. Negative differential input relative to AIN0-AIN4 (Table 5).", 16 AIN0 (in) "Analog Input 0. Positive differential input relative to AIN1 or positive differential input relative to AIN5 (Table 5). Connect to the anode of external diode 1 for remote temperature sensing."